# Altium schematic symbol library SCH - MECHANICAL - PASSERMARK.Schlib: 1 symbol
Pins are listed as number, name and electrical type; pins without a type are passive.

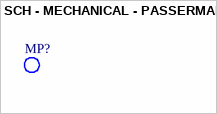
[diagram p0: symbol SCH - MECHANICAL - PASSERMARK]

## SCH - MECHANICAL - PASSERMARK
designator MP?  (no BOM)
footprint PASSMARKE